# EAGLE library part TPS62933 (library omcPwrSupply)
TPS62933 3.8-V to 30-V, 3-A Synchronous Buck Converters 3.8-V to 30-V input voltage range 0.8-V to 22-V output voltage range 0.8 V ± 1% reference voltage Maximum 98% duty cycle operation Precision EN threshold 200-kHz to 2.2-MHz selectable frequency TI Datasheet <https://www.ti.com/lit/ds/symlink/tps62933.pdf>
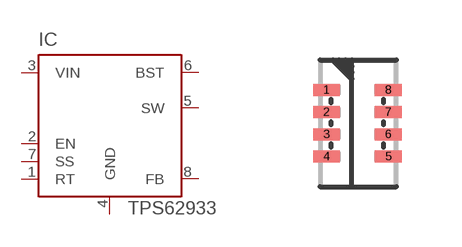
[diagram p11: symbol with the pads of SOT583; footprint SOT583]

Designator prefix IC

## TPS62933 (VALUE: TPS62933; VENDOR#: TI,TPS62933DRLR)  [SOT583]
1  RT  pas
2  EN  pas
3  VIN  pwr
4  GND  pwr
5  SW  out
6  BST  pas
7  SS  pas
8  FB  pas

## Footprint SOT583 (pad centres in mm)
SOT583 8-lead Package Technology: SMD
smd 0.67 x 0.3: 1 -0.794,0.833; 2 -0.794,0.278; 3 -0.794,-0.278; 4 -0.794,-0.833; 5 0.754,-0.833; 6 0.754,-0.278; 7 0.754,0.278; 8 0.754,0.833